# EAGLE library part PIN1X8 (library Connector)
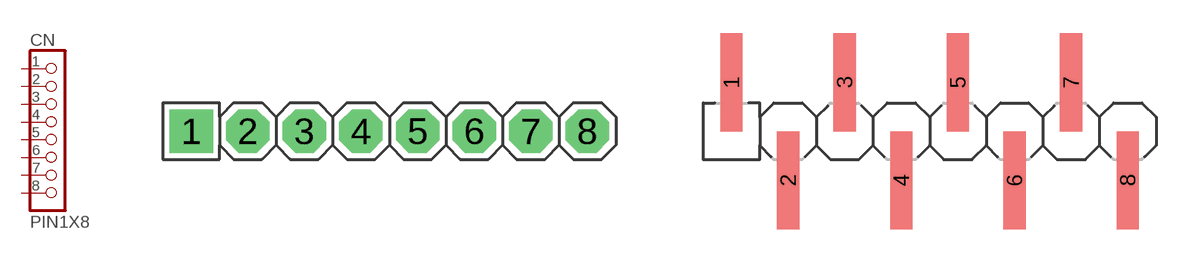
[diagram p21: symbol with the pads of PIN1X8; footprints PIN1X8, PIN1X8-SMT]

Designator prefix CN

## PIN1X8  [PIN1X8]
1  1  pas
2  2  pas
3  3  pas
4  4  pas
5  5  pas
6  6  pas
7  7  pas
8  8  pas

## PIN1X8-SMT  [PIN1X8-SMT]
Pads as for PIN1X8

## Footprint PIN1X8 (pad centres in mm)
drill 1.3 pad 1.9 square: 1 -8.89,0
drill 1.3 pad 1.9 octagon: 2 -6.35,0; 3 -3.81,0; 4 -1.27,0; 5 1.27,0; 6 3.81,0; 7 6.35,0; 8 8.89,0

## Footprint PIN1X8-SMT (pad centres in mm)
smd 1 x 4.4: 1 -8.89,2.2; 2 -6.35,-2.2; 3 -3.81,2.2; 4 -1.27,-2.2; 5 1.27,2.2; 6 3.81,-2.2; 7 6.35,2.2; 8 8.89,-2.2